# Altium footprint library SOT-23 (4).PcbLib: 1 footprints
Each footprint in its own frame and in the unit in brackets; x right, y up, seen from the top. Pads: shape width x height; smd on the part's side, far side on the other; paste and mask are expansions set on the pad; w line width, h text height; cw(c..) or ccw(c..) is an arc to the next point about the centre after c.
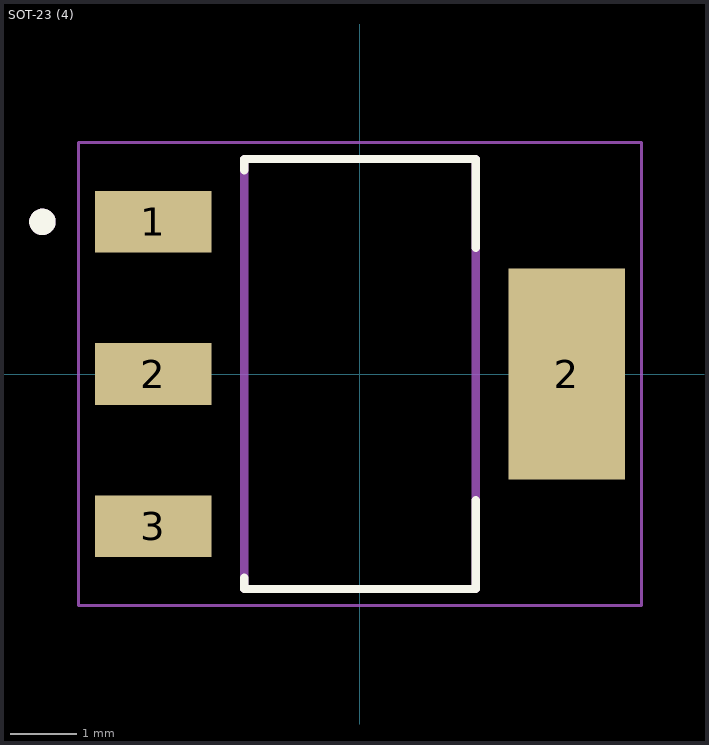
[diagram p0: the footprint, top view; thin cyan lines are the x and y axes]

## SOT-23 (4) [mm]
pads (4):
  rect 1.76x0.93 smd: 1(-3.125,2.3) 2(-3.125,0) 3(-3.125,-2.3)
  rect 1.76x3.19 smd: 2(3.125,0)
Top Overlay:
  circle w0.2: c-4.8,2.3 r0.1
  lines w0.127: -1.75,-3.08 -1.75,-3.25 1.75,-3.25 1.75,-1.91 ; -1.75,3.08 -1.75,3.25 1.75,3.25 1.75,1.91
Mechanical 4:
  circle w0.2: c-4.8,2.3 r0.1
  circle w0.2: c-4.8,2.3 r0.1
  lines w0.127: -1.75,-3.25 -1.75,3.25 ; -1.75,-3.25 1.75,-3.25 ; -1.75,-3.25 -1.75,3.25 ; -1.75,-3.25 1.75,-3.25 ; -1.75,3.25 1.75,3.25 ; -1.75,3.25 1.75,3.25 ; 1.75,-3.25 1.75,3.25 ; 1.75,-3.25 1.75,3.25
Mechanical 16:
  lines w0.05: -4.255,-3.5 -4.255,3.5 4.255,3.5 4.255,-3.5 -4.255,-3.5